# EAGLE library part 61002418321 (library Board-to-Board (rev18a))
WR-PHD 2.54mm SMT Pin Header, 24 Pins =>Code : Con_BTB_PHD_2.54_1_SMT_61002418321 <http://katalog.we-online.de/media/images/eican/Con_BTB_PHD_2.54_1_SMT_6100xx18221_pf2.jpg> Details see: http://katalog.we-online.de/en/em/610_0xx_182_21 Created 2014-05-29, Karrer Zheng 2014 (C) Würth Elektronik
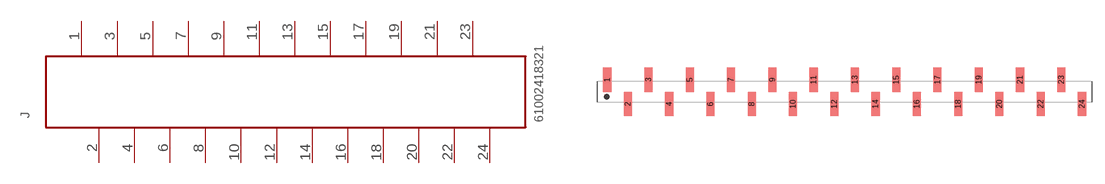
[diagram p70: symbol with the pads of 61002418321; footprint 61002418321]

Designator prefix J

## 61002418321  [61002418321]
1  24  pas
2  23  pas
3  22  pas
4  21  pas
5  20  pas
6  19  pas
7  18  pas
8  17  pas
9  16  pas
10  15  pas
11  14  pas
12  13  pas
13  12  pas
14  11  pas
15  10  pas
16  9  pas
17  8  pas
18  7  pas
19  6  pas
20  5  pas
21  4  pas
22  3  pas
23  2  pas
24  1  pas

## Footprint 61002418321 (pad centres in mm)
WR-PHD 2.54mm SMT Pin Header, 24 Pins
smd 1 x 3: 1 -29.21,1.5; 2 -26.67,-1.5; 3 -24.13,1.5; 4 -21.59,-1.5; 5 -19.05,1.5; 6 -16.51,-1.5; 7 -13.97,1.5; 8 -11.43,-1.5; 9 -8.89,1.5; 10 -6.35,-1.5; 11 -3.81,1.5; 12 -1.27,-1.5; 13 1.27,1.5; 14 3.81,-1.5; 15 6.35,1.5; 16 8.89,-1.5; 17 11.43,1.5; 18 13.97,-1.5; 19 16.51,1.5; 20 19.05,-1.5; 21 21.59,1.5; 22 24.13,-1.5; 23 26.67,1.5; 24 29.21,-1.5